# Altium footprint library Resistor.PcbLib: 7 footprints
Each footprint in its own frame and in the unit in brackets; x right, y up, seen from the top. Pads: shape width x height; smd on the part's side, far side on the other; paste and mask are expansions set on the pad; w line width, h text height; cw(c..) or ccw(c..) is an arc to the next point about the centre after c.
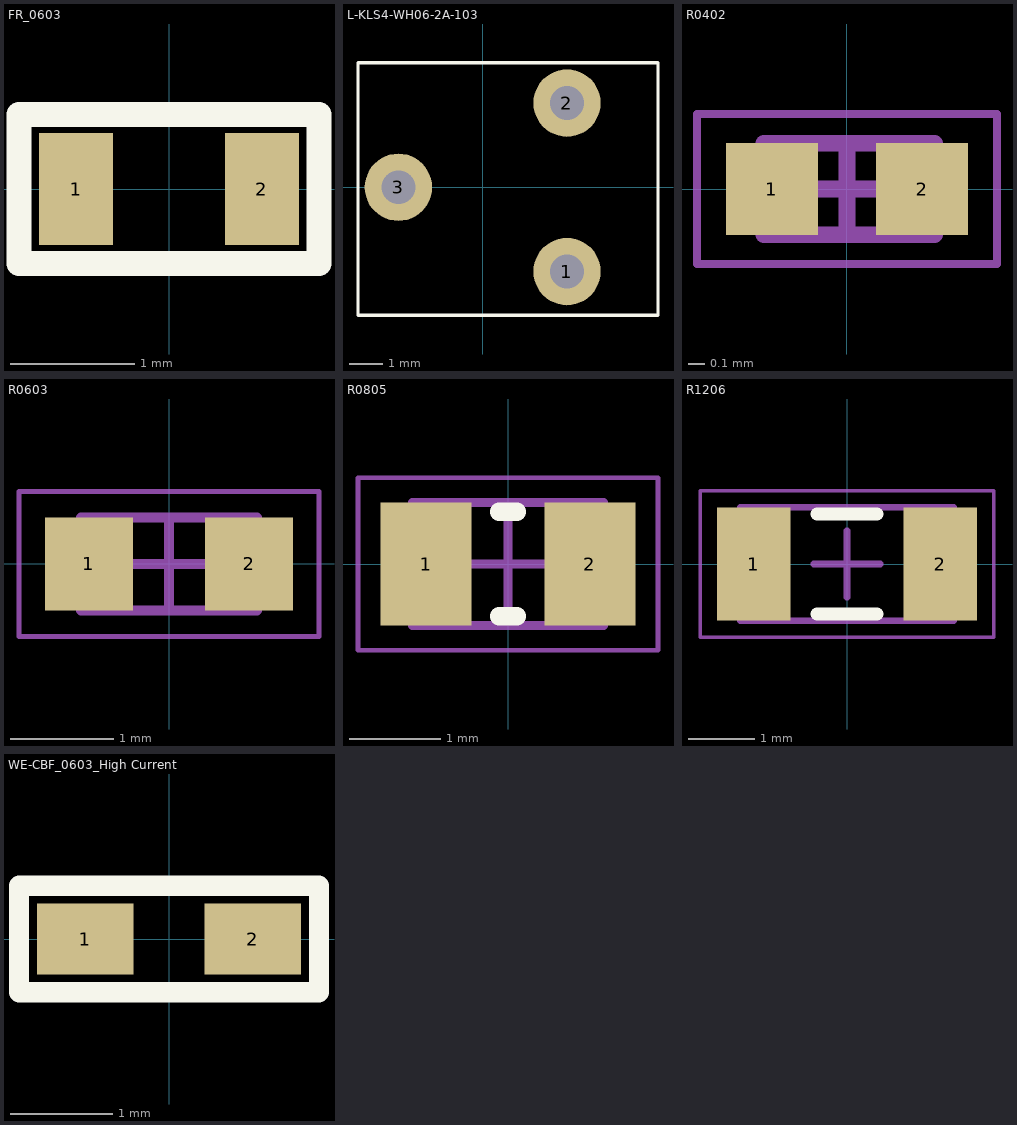
[diagram p0: the footprints below, top view; thin cyan lines are the x and y axes]

## FR_0603 [mm]
pads (2):
  rect 0.6x0.9 smd: 1(-0.75,0) 2(0.75,0)
Top Overlay:
  lines w0.2: -1.21,-0.6 -1.21,0.6 1.21,0.6 1.21,-0.6 -1.21,-0.6
3D body "FR_0603.stp": height 0.81, standoff 0.01, extent -0.8,-0.4 0.8,0.4

## L-KLS4-WH06-2A-103 [mm]
pads (3):
  round 2 hole 1: 1(2.5,-2.5) 2(2.5,2.5) 3(-2.5,0)
Top Overlay:
  lines w0.1: -3.7,-3.8 -3.7,3.7 5.2,3.7 5.2,-3.8 -3.7,-3.8
3D body "Trimmer_3306F.STEP": height 7.62, standoff -3.04, extent -3.375,-3.405 4.876,3.405

## R0402 [mm] "Chip Resistor, 2-Leads, Body 1.00x0.50mm, IPC Medium Density"
height 0.4
pads (2):
  rect 0.55x0.55 smd: 1(-0.45,0) 2(0.45,0)
Mechanical 13:
  region: 0.525,0.296 0.415,0.296 0.415,-0.275 0.525,-0.275
  rectangle: -0.5,-0.296 -0.39,0.275
  lines w0.1: -0.5,-0.275 0.525,-0.275 0.525,0.275 -0.5,0.275 -0.5,-0.275
  text ".Designator" at -0.356,-0.037 h0.2
Mechanical 15:
  lines w0.05: -0.9,-0.45 -0.9,0.45 0.9,0.45 0.9,-0.45 -0.9,-0.45
  lines w0.1: -0.275,0 0.275,0 ; 0,-0.275 0,0.275
3D body "SMD_0402.step": height 0.36, standoff 0.01, extent -0.5,-0.25 0.5,0.25

## R0603 [mm] "Chip Resistor, 2-Leads, Body 1.60x0.80mm, IPC Medium Density"
height 0.55
pads (2):
  rect 0.85x0.9 smd: 1(-0.775,0) 2(0.775,0)
Mechanical 13:
  rectangle: 0.683,-0.465 0.833,0.442
  rectangle: -0.85,-0.45 -0.7,0.457
  lines w0.1: -0.85,-0.45 -0.85,0.45 0.85,0.45 0.85,-0.45 -0.85,-0.45
  text ".Designator" at -0.6,-0.075 h0.3
Mechanical 15:
  lines w0.05: -1.45,-0.7 -1.45,0.7 1.45,0.7 1.45,-0.7 -1.45,-0.7
  lines w0.1: -0.45,0 0.45,0 ; 0,-0.45 0,0.45
3D body "R0603.step": height 0.46, standoff 0.01, extent -0.8,-0.4 0.8,0.4

## R0805 [mm] "Chip Resistor, 2-Leads, Body 2.00x1.25mm, IPC Medium Density"
height 0.6
pads (2):
  rect 1x1.35 smd: 1(-0.9,0) 2(0.9,0)
Top Overlay:
  lines w0.2: -0.1,-0.575 0.1,-0.575 ; -0.1,0.575 0.1,0.575
Mechanical 13:
  rectangle: 0.775,-0.676 1.073,0.7
  rectangle: -1.05,-0.701 -0.752,0.675
  lines w0.1: -1.05,-0.675 1.05,-0.675 1.05,0.675 -1.05,0.675 -1.05,-0.675
  text ".Designator" at -1.999,-0.133 h0.4
Mechanical 15:
  lines w0.05: -1.65,-0.95 1.65,-0.95 1.65,0.95 -1.65,0.95 -1.65,-0.95
  lines w0.1: -0.5,0 0.5,0 ; 0,-0.5 0,0.5
3D body "R0805.step": height 0.61, standoff 0.01, extent -1,-0.625 1,0.625

## R1206 [mm] "Chip Resistor, 2-Leads, Body 3.10x1.60mm, IPC Medium Density"
height 0.65
pads (2):
  rect 1.1x1.7 smd: 1(-1.4,0) 2(1.4,0)
Top Overlay:
  lines w0.2: -0.45,-0.75 0.45,-0.75 ; -0.45,0.75 0.45,0.75
Mechanical 13:
  rectangle: 1.275,-0.825 1.575,0.875
  rectangle: -1.6,-0.85 -1.3,0.85
  lines w0.1: -1.6,-0.85 -1.6,0.85 1.6,0.85 1.6,-0.85 -1.6,-0.85
  text ".Designator" at -1.2,-0.207 h0.58
Mechanical 15:
  lines w0.05: -2.2,-1.1 -2.2,1.1 2.2,1.1 2.2,-1.1 -2.2,-1.1
  lines w0.1: -0.5,0 0.5,0 ; 0,-0.5 0,0.5
3D body "R1206.step": height 0.61, standoff 0.01, extent -1.6,-0.8 1.6,0.8

## WE-CBF_0603_High Current [mm] "SMD EMI Suppression Ferrite  Bead, body 1.6x0.8mm"
height 1
pads (2):
  rect 0.95x0.7 smd: 1(-0.825,0) 2(0.825,0)
Top Overlay:
  lines w0.2: -1.475,-0.525 1.475,-0.525 1.475,0.525 -1.475,0.525 -1.475,-0.525
3D body "WE-CBF_0603_CBF.stp": height 0.8, standoff 0, extent -0.8,-0.4 0.8,0.4